# Altium schematic symbol library SCH - DRIVER - LED - TI LM3410XSD.SchLib: 1 symbol
Pins are listed as number, name and electrical type; pins without a type are passive.

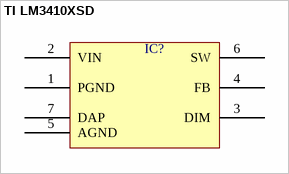
[diagram p0: symbol TI LM3410XSD]

## TI LM3410XSD
designator IC?  (value not drawn)
pins: 1 PGND, 2 VIN, 3 DIM, 4 FB, 5 AGND, 6 SW, 7 DAP